# Altium footprint library Audio_Manufacturers.PcbLib: 4 footprints
Each footprint in its own frame and in the unit in brackets; x right, y up, seen from the top. Pads: shape width x height; smd on the part's side, far side on the other; paste and mask are expansions set on the pad; w line width, h text height; cw(c..) or ccw(c..) is an arc to the next point about the centre after c.
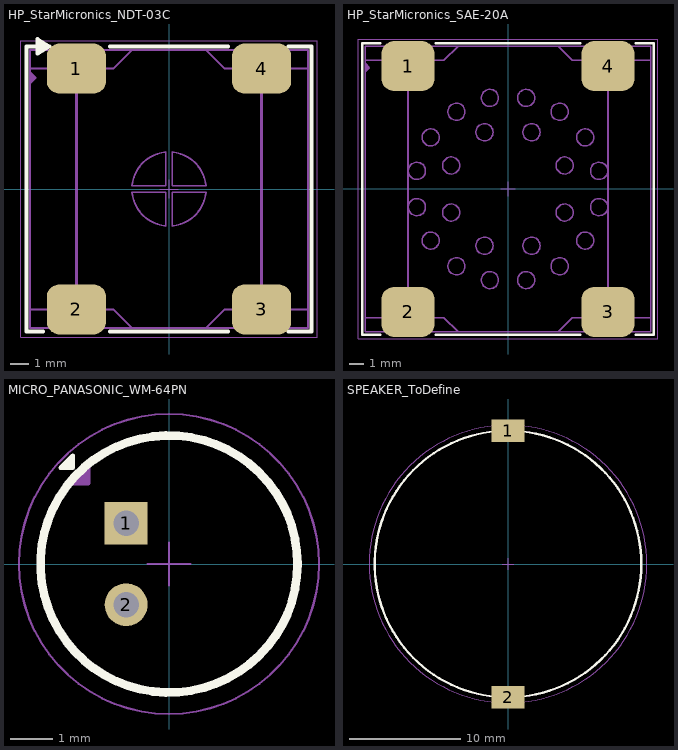
[diagram p0: the footprints below, top view; thin cyan lines are the x and y axes]

## HP_StarMicronics_NDT-03C [mm] "SMD Spekear"
height 4
pads (4):
  rrect50% 3.2x2.7 smd: 1(-5,6.5) 2(-5,-6.5) 3(5,-6.5) 4(5,6.5)
Top Overlay:
  lines w0.2: -7.025,7.475 -6.7,7.7 -7.025,7.925 ; -6.8,-7.7 -7.7,-7.7 -7.7,7.7 -6.45,7.7 ; -3.2,-7.7 3.2,-7.7 ; -3.2,7.7 3.2,7.7 ; 6.45,-7.7 7.7,-7.7 7.7,7.7 6.45,7.7 ; -6.45,7.7 -7.1,7.3 -7.1,7.7 -7.1,8.1 -6.45,7.7
M-CAD:
  lines w0.15: -5,-6.5 -5,6.5 ; 5,-6.5 5,6.5 ; -6.25,-7.5 -3.75,-7.5 -3.75,-5.5 -6.25,-5.5 -6.25,-7.5 ; -6.25,5.5 -6.25,7.5 -3.75,7.5 -3.75,5.5 -6.25,5.5 ; 3.75,-7.5 6.25,-7.5 6.25,-5.5 3.75,-5.5 3.75,-7.5 ; 3.75,5.5 3.75,7.5 6.25,7.5 6.25,5.5 3.75,5.5
TopBody:
  lines w0.1: -7.5,-6.5 -3,-6.5 -2,-7.5 ; -7.5,5.7 -7.2,6 -7.5,6.3 ; -7.5,5.8 -7.3,6 -7.5,6.2 ; -7.5,5.9 -7.4,6 -7.5,6.1 ; -7.5,6.5 -3,6.5 -2,7.5 -1,7.5 ; 2,-7.5 3,-6.5 7.5,-6.5 ; 2,7.5 3,6.5 7.5,6.5 ; -7.5,-7.5 -7.5,7.5 7.5,7.5 7.5,-7.5 -7.5,-7.5 ; -1.992,-0.174 ccw(c0,0) -0.174,-1.992 -0.174,-0.174 -1.992,-0.174 ; -1.992,0.174 cw(c0,0) -0.174,1.992 -0.174,0.174 -1.992,0.174 ; 0.174,-1.992 ccw(c0,0) 1.992,-0.174 0.174,-0.174 0.174,-1.992 ; 0.174,0.174 0.174,1.992 cw(c0,0) 1.992,0.174 0.174,0.174
TopCourtyard:
  lines w0.05: -0.5,0 0,0 ; 0,-0.5 0,0 ; 0,0.5 0,0 ; 0.5,0 0,0 ; -8,-8 -8,8 8,8 8,-8 -8,-8
3D body: height 4, standoff 0, extent -7.5,-7.5 7.5,7.5

## HP_StarMicronics_SAE-20A [mm] "SMD Spekear"
height 4
pads (4):
  rrect50% 3.7x3.5 smd: 1(-7,8.6) 2(-7,-8.6) 3(7,-8.6) 4(7,8.6)
Top Overlay:
  lines w0.2: -8.95,-10.2 -10.2,-10.2 -10.2,10.2 -8.95,10.2 ; -5.05,-10.2 5.05,-10.2 ; -5.05,10.2 5.05,10.2 ; 8.95,-10.2 10.2,-10.2 10.2,10.2 8.95,10.2
M-CAD:
  lines w0.15: -7,-8.6 -7,8.6 ; 7,-8.6 7,8.6 ; 5.5,7.2 8.5,7.2 8.5,10 5.5,10 5.5,7.2
TopBody:
  circle w0.1: c-5.405,-3.611 r0.6
  circle w0.1: c-1.646,-3.973 r0.6
  circle w0.1: c1.646,-3.973 r0.6
  circle w0.1: c3.973,-1.646 r0.6
  circle w0.1: c3.973,1.646 r0.6
  circle w0.1: c1.646,3.973 r0.6
  circle w0.1: c-1.646,3.973 r0.6
  circle w0.1: c-3.973,1.646 r0.6
  circle w0.1: c-3.973,-1.646 r0.6
  circle w0.1: c-3.611,-5.405 r0.6
  circle w0.1: c-1.268,-6.375 r0.6
  circle w0.1: c1.268,-6.375 r0.6
  circle w0.1: c3.611,-5.405 r0.6
  circle w0.1: c5.405,-3.611 r0.6
  circle w0.1: c6.375,-1.268 r0.6
  circle w0.1: c6.375,1.268 r0.6
  circle w0.1: c5.405,3.611 r0.6
  circle w0.1: c3.611,5.405 r0.6
  circle w0.1: c1.268,6.375 r0.6
  circle w0.1: c-1.268,6.375 r0.6
  circle w0.1: c-3.611,5.405 r0.6
  circle w0.1: c-5.405,3.611 r0.6
  circle w0.1: c-6.375,1.268 r0.6
  circle w0.1: c-6.375,-1.268 r0.6
  lines w0.1: -10,-9 -4.5,-9 -3.5,-10 ; -10,8.2 -9.7,8.5 -10,8.8 ; -10,8.3 -9.8,8.5 -10,8.7 ; -10,8.4 -9.9,8.5 -10,8.6 ; -10,9 -4.5,9 -3.5,10 ; 3.5,-10 4.5,-9 10,-9 ; 3.5,10 4.5,9 10,9 ; -10,-10 10,-10 10,10 -10,10 -10,-10
TopCourtyard:
  lines w0.05: -0.5,0 0,0 ; 0,-0.5 0,0 ; 0,0.5 0,0 ; 0.5,0 0,0 ; -10.5,-10.5 10.5,-10.5 10.5,10.5 -10.5,10.5 -10.5,-10.5
3D body: height 4, standoff 0, extent -10,-10 10,10

## MICRO_PANASONIC_WM-64PN [mm] "Omnidirectional Back Electret Condenser Microphone Cartridge"
height 2.2
pads (2):
  rect 1x1 hole 0.6: 1(-1,0.95)
  round 1 hole 0.6: 2(-1,-0.95)
Top Overlay:
  circle w0.2: c0,0 r3
  lines w0.1: -2.462,2.321 -2.321,2.321 -2.321,2.462 ; -2.533,2.25 -2.25,2.25 -2.25,2.533 -2.533,2.25
TopBody:
  circle w0.1: c0,0 r3
  lines w0.1: -2.312,1.888 -1.888,1.888 -1.888,2.312 ; -2.241,1.959 -1.959,1.959 -1.959,2.241 ; -2.171,2.029 -2.029,2.029 -2.029,2.171
TopCourtyard:
  circle w0.05: c0,0 r3.501
  lines w0.05: -0.5,0 0,0 ; 0,-0.5 0,0 ; 0,0.5 0,0 ; 0.5,0 0,0
3D body: height 2.2, standoff 0, extent -3.009,-3.009 3.009,3.009

## SPEAKER_ToDefine [mm] "SMD Spekear"
height 4
pads (2):
  rect 3x2 smd: 1(0,12) 2(0,-12)
Top Overlay:
  circle w0.2: c0,0 r12
  lines w0.1: -0.1,12.325 0,12.225 0.1,12.325 ; -0.2,12.325 0.2,12.325 0,12.125 -0.2,12.325
TopBody:
  circle w0.1: c0,0 r12
  lines w0.1: -0.3,12 0,11.7 0.3,12 ; -0.2,12 0,11.8 0.2,12 ; -0.1,12 0,11.9 ; 0,12 0,11.9 ; 0.1,12 0,11.9
TopCourtyard:
  circle w0.05: c0,0 r12.5
  lines w0.05: -0.5,0 0,0 ; 0,-0.5 0,0 ; 0,0.5 0,0 ; 0.5,0 0,0
3D body: height 4, standoff 2, extent 0,0 7.512,7.512
3D body: height 4, standoff 2, extent -7.209,0 0.303,12.209
3D body: height 4, standoff 2, extent 0,-7.512 7.512,0
3D body: height 4, standoff 2, extent -7.512,-7.512 0,0
3D body: height 4, standoff 2, extent 0,0 12.011,12.011
3D body: height 4, standoff 2, extent 0,-12.011 12.011,0
3D body: height 4, standoff 2, extent -12.011,-12.011 0,0
3D body: height 4, standoff 2, extent -12.011,0 0,12.011
3D body: height 2, standoff 0, extent -12.011,-12.011 12.023,12.023